# Altium schematic symbol library Comments.SchLib: 7 symbols
Pins are listed as number, name and electrical type; pins without a type are passive.

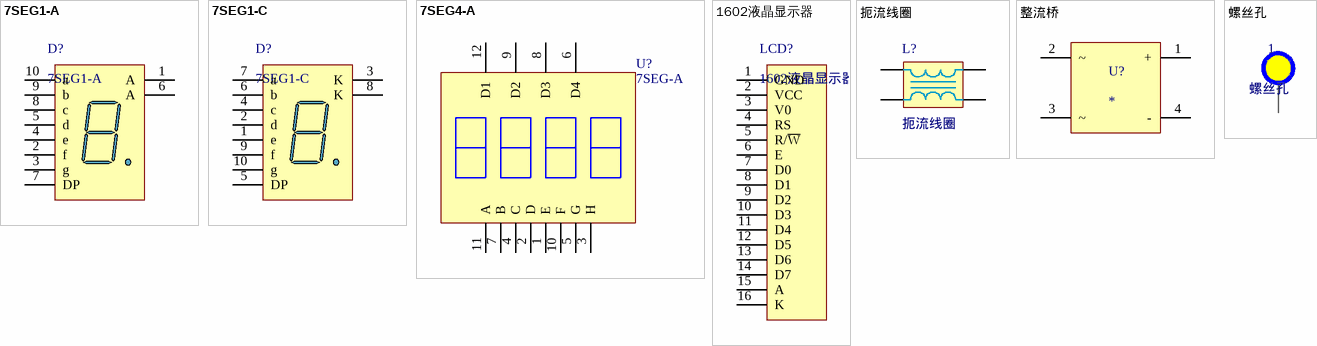
[diagram p0: symbols 7SEG1-A to 螺丝孔]

## 7SEG1-A
designator D?
footprint 7SEG_056x1
footprint 7seg_036x1
pins: 1 A "Common Anode", 2 f "Cathode", 3 g "Cathode", 4 e "Cathode", 5 d "Cathode", 6 A "Common Anode", 7 DP "Cathode", 8 c "Cathode", 9 b "Cathode", 10 a "Cathode"

## 7SEG1-C
designator D?
footprint 7SEG_056x1
footprint 7seg_036x1
pins: 1 e "Anode", 2 d "Anode", 3 K "Common Cathode", 4 c "Anode", 5 DP "Anode", 6 b "Anode", 7 a "Anode", 8 K "Common Cathode", 9 f "Anode", 10 g "Anode"

## 7SEG4-A
designator U?, comment 7SEG-A
footprint 7SEG_036X4
footprint 7SEG_056x4
pins: 1 E, 2 D, 3 H, 4 C, 5 G, 6 D4, 7 B, 8 D3, 9 D2, 10 F, 11 A, 12 D1

## 1602液晶显示器
designator LCD?
footprint LCD1602A (LCD1602A液晶显示器)
pins: 1 GND, 2 VCC, 3 V0, 4 RS, 5 R/~{W}, 6 E, 7 D0, 8 D1, 9 D2, 10 D3, 11 D4, 12 D5, 13 D6, 14 D7, 15 A, 16 K

## 扼流线圈
designator L?
footprint 扼流线圈
footprint ACM7060
pins: 1, 2, 3, 4

## 整流桥
designator U?
footprint 整流桥
pins: 1 +, 2 ~, 3 ~, 4 -

## 螺丝孔
designator 1
footprint M3 (螺丝孔M3)
footprint M2.5 (螺丝孔M2.5)
footprint M2.5_Pad (螺丝孔M2.5)
footprint M3_Pad (螺丝孔M3)
pins: 1 GND